# EAGLE library part MINIDIN8 (library ads4)
8-pin Mini-DIN connector
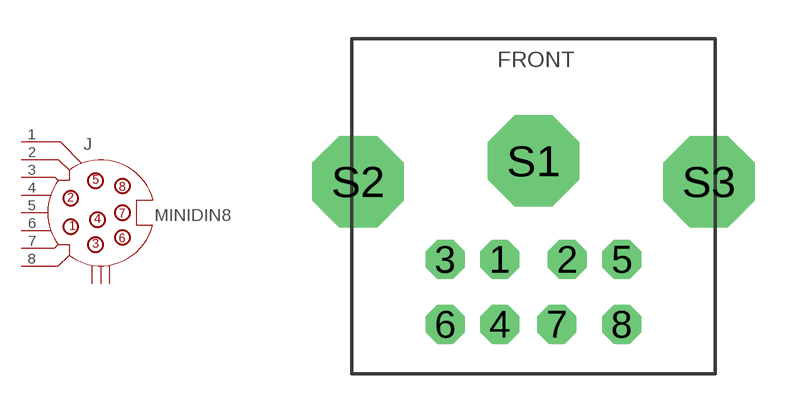
[diagram p44: symbol with the pads of MD-80SM; footprint MD-80SM]

Designator prefix J

## MINIDIN8MD-80SM  [MD-80SM]
1  1  pas
2  2  pas
3  3  pas
4  4  pas
5  5  pas
6  6  pas
7  7  pas
8  8  pas
S1  P$1  pas
S2  P$2  pas
S3  P$3  pas

## Footprint MD-80SM (pad centres in mm)
CUI MD-80SM 8-pin Mini-DIN Connector
drill 1 octagon: 1 -1.3,0; 2 1.3,0; 3 -3.4,0; 4 -1.3,-2.5; 5 3.4,0; 6 -3.4,-2.5; 7 0.9,-2.5; 8 3.4,-2.5
drill 2.5 octagon: S1 0,3.8; S2 -6.75,3; S3 6.75,3